# Altium schematic symbol library UFL_CONN.SCHLIB: 1 symbol
Pins are listed as number, name and electrical type; pins without a type are passive.

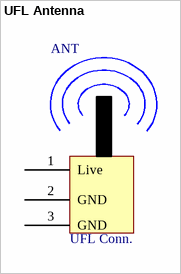
[diagram p0: symbol UFL Antenna]

## UFL Antenna
designator ANT  value UFL Conn.  (hidden comment: *)
Manufacturer: HIROSE; Manufacturer Code: U.FL-R-SMT-1(10); Unit Price: 0,578 €; Farnell Code: 1688077; MOQ: 1
footprint UFL CONN (UFL IPEX SMD CONNECTOR)
pins: 1 Live, 2 GND, 3 GND